# Altium footprint library BC547.PcbLib: 1 footprints
Each footprint in its own frame and in the unit in brackets; x right, y up, seen from the top. Pads: shape width x height; smd on the part's side, far side on the other; paste and mask are expansions set on the pad; w line width, h text height; cw(c..) or ccw(c..) is an arc to the next point about the centre after c.
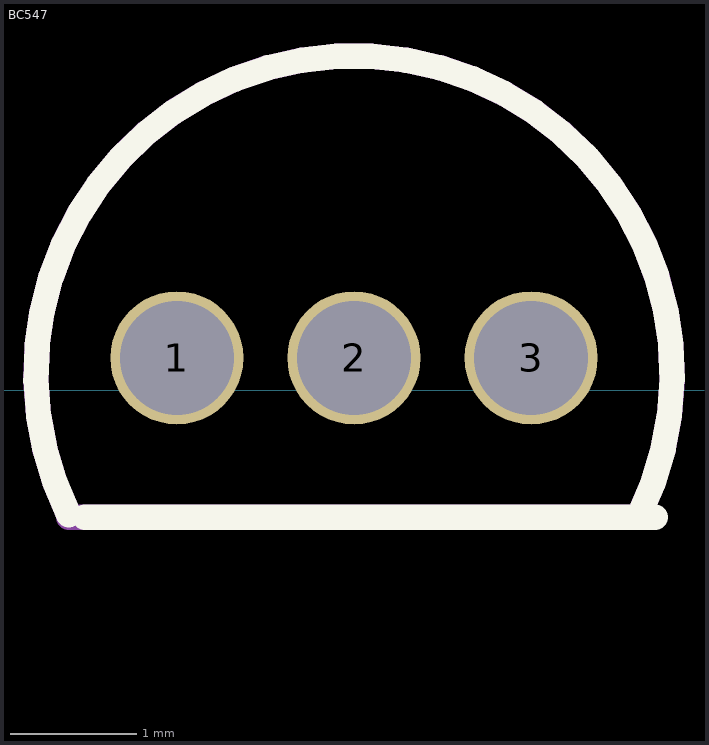
[diagram p0: the footprint, top view; thin cyan lines are the x and y axes]

## BC547 [mm] "SOT89, 3-Leads, Body 4.76x4.83mm, Pitch 1.27mm, Lead Span 19.2mm, IPC Medium Density"
height 4.19
pads (3):
  round 1.05 hole 0.9: 1(-4.445,0.254) 2(-3.048,0.254) 3(-1.651,0.254)
Top Overlay:
  circle w0.2: c-3.084,0.2 r0.053
  lines w0.2: -5.298,-0.985 cw(c-3.048,0.127) -0.797,-0.981 ; -5.171,-1.003 -0.671,-1.003
Mechanical 15:
  lines w0.2: -5.298,-1.003 -0.798,-1.003 ; -5.298,-0.985 cw(c-3.048,0.127) -0.798,-0.985
3D body "User Library-BC547 Transistors NPN TO-92 3L (2,54mm).STEP": height 14.7, standoff -4.82, extent -5.428,-1.143 -0.668,2.487